# EAGLE library part OPT3001DNPR (library OPT3001)
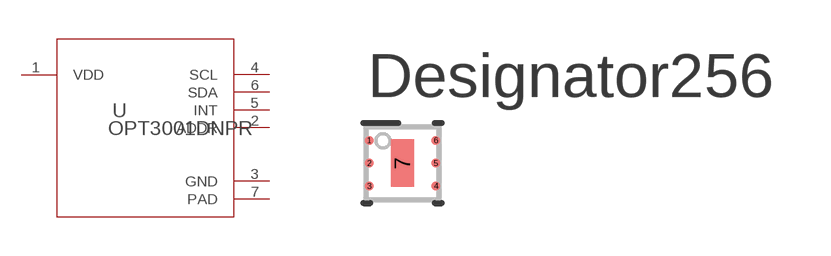
[diagram p0: symbol with the pads of DNP0006A; footprint DNP0006A]

Designator prefix U

## OPT3001DNPR (APPLICATION_BUILDNUMBER: *; COMPTYPE: IC; MANUFACTURER: Texas Instruments; MOUNTTYPE: SMT; PACKAGEREFERENCE: DNP0006A; PARTNUMBER: OPT3001DNP; PIN_COUNT: 7; REFDES: RefDes; ROHS: Y; TYPE: TYPE; VALUE: Value)  [DNP0006A]
1  VDD  pwr
2  ADDR  in
3  GND  pwr
4  SCL  in
5  INT  out
6  SDA  in
7  PAD  pas

## Footprint DNP0006A (pad centres in mm)
smd 0.25 x 0.25: 1 -0.95,0.65; 2 -0.95,0; 3 -0.95,-0.655; 4 0.95,-0.65; 5 0.95,0; 6 0.95,0.65
smd 0.65 x 1.35: 7 0,0